# EAGLE library part TPS3103 (library TPS310x)
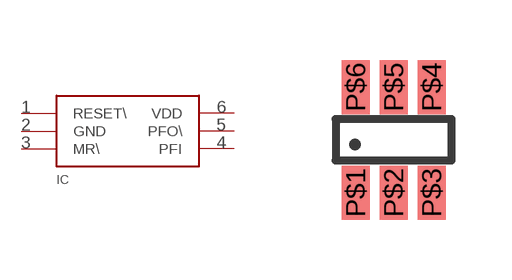
[diagram p1: symbol with the pads of SO-06; footprint SO-06]

Designator prefix IC

## TPS3103  [SO-06]
P$1  RESET\  oc
P$2  GND  pwr
P$3  MR\  in
P$4  PFI  in
P$5  PFO\  oc
P$6  VDD  pwr

## Footprint SO-06 (pad centres in mm)
smd 0.7 x 1.35: P$1 -0.95,-1.32; P$2 0,-1.32; P$3 0.95,-1.32; P$4 0.95,1.32; P$5 0,1.32; P$6 -0.95,1.32